# Altium footprint library DS1114-BN0.PcbLib: 1 footprints
Each footprint in its own frame and in the unit in brackets; x right, y up, seen from the top. Pads: shape width x height; smd on the part's side, far side on the other; paste and mask are expansions set on the pad; w line width, h text height; cw(c..) or ccw(c..) is an arc to the next point about the centre after c.
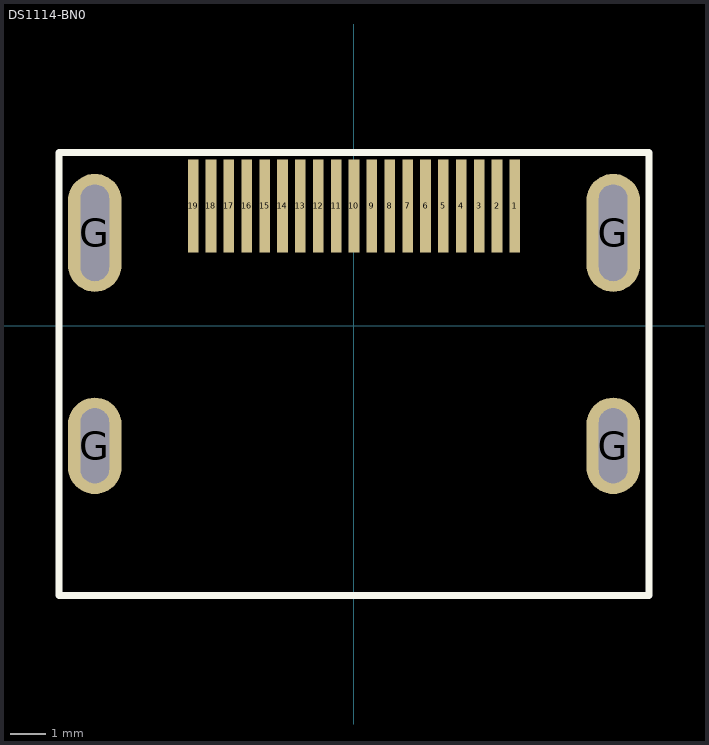
[diagram p0: the footprint, top view; thin cyan lines are the x and y axes]

## DS1114-BN0 [mm] "DS1114-BN0"
pads (23):
  rect 0.3x2.6 smd mask+0.015: 1(4.5,3.355) 2(4,3.355) 3(3.5,3.355) 4(3,3.355) 5(2.5,3.355) 6(2,3.355) 7(1.5,3.355) 8(1,3.355) 9(0.5,3.355) 10(0,3.355) 11(-0.5,3.355) 12(-1,3.355) 13(-1.5,3.355) 14(-2,3.355) 15(-2.5,3.355) 16(-3,3.355) 17(-3.5,3.355) 18(-4,3.355) 19(-4.5,3.355)
  oval 1.5x2.7 hole 0.8 slot 2.1 at 90 deg: G(-7.25,-3.355) G(7.25,-3.355)
  oval 1.5x3.3 hole 0.8 slot 2.7 at 90 deg: G(-7.25,2.605) G(7.25,2.605)
Top Overlay:
  lines w0.2: -8.25,-7.545 8.25,-7.545 8.25,4.855 -8.25,4.855 -8.25,-7.545
Top Assembly:
  lines w0.1: -8.25,-7.545 8.25,-7.545 8.25,4.855 -8.25,4.855 -8.25,-7.545
  text "'.Designator'" at -3.975,-1.17 h0.7
3D body "694d119-668-011.STEP": height 6.22, standoff -2.11, extent -7.475,-7.545 7.525,4.326